# Altium schematic symbol library ISCHIE.SchLib: 1 symbol
Pins are listed as number, name and electrical type; pins without a type are passive.

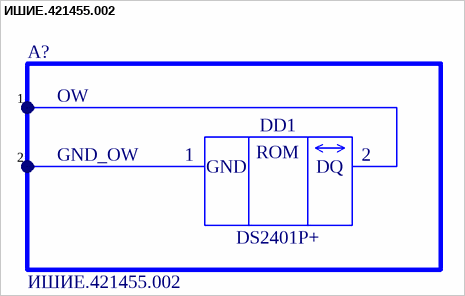
[diagram p0: symbol ИШИЕ.421455.002]

## ИШИЕ.421455.002
designator A?
Идентификатор 1-Wire (кабельный); ValueBOM: ИШИЕ.421455.002 Идентификатор 1-Wire; ValueSch: ИШИЕ.421455.002
pins: 1 (io), 2 (power)
text: OW; DD1; ROM; GND_OW; GND; DQ; DS2401P+